# Altium footprint library PCB - CAPACITOR - CHIP - CAPC_2220.PCBLIB: 1 footprints
Each footprint in its own frame and in the unit in brackets; x right, y up, seen from the top. Pads: shape width x height; smd on the part's side, far side on the other; paste and mask are expansions set on the pad; w line width, h text height; cw(c..) or ccw(c..) is an arc to the next point about the centre after c.
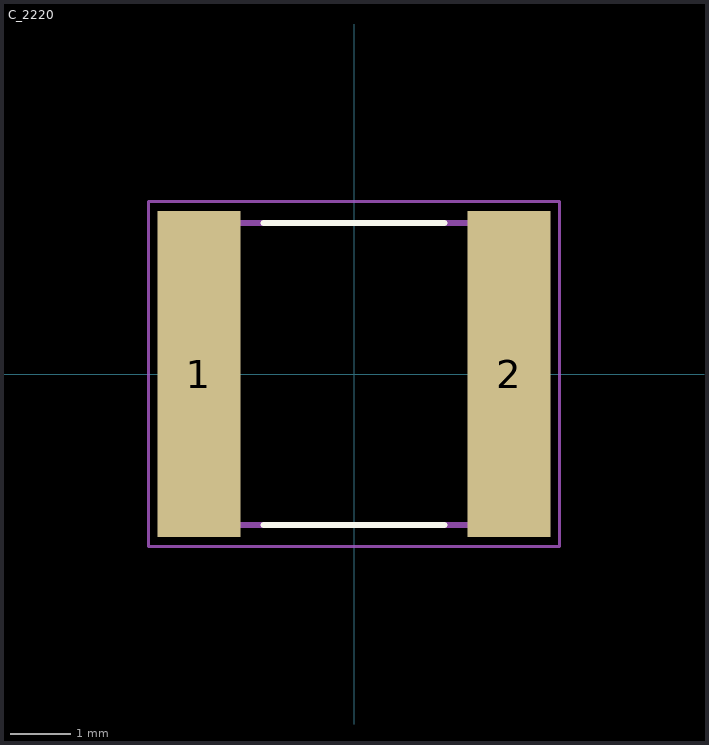
[diagram p0: the footprint, top view; thin cyan lines are the x and y axes]

## C_2220 [mm]
pads (2):
  rect 1.37x5.41 smd: 1(-2.57,0) 2(2.57,0)
Top Overlay:
  lines w0.1: -1.5,-2.502 1.5,-2.502 ; -1.5,2.5 1.5,2.5
Top Assembly:
  lines w0.1: -2.85,-2.5 -2.85,2.5 2.85,2.5 2.85,-2.5 -2.85,-2.5
Mechanical 15:
  lines w0.05: -3.405,-2.86 -3.405,2.86 3.405,2.86 3.405,-2.86 -3.405,-2.86
3D body "2220Y6300105KXTWS2.stp": height 4.2, standoff 0, extent -2.85,-2.5 2.85,2.5